# Altium schematic symbol library Si501_2_3.Schlib: 1 symbol
Pins are listed as number, name and electrical type; pins without a type are passive.

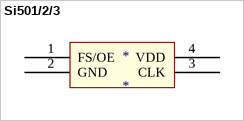
[diagram p0: symbol Si501/2/3]

## Si501/2/3
designator *
pins: 1 FS/OE, 2 GND, 3 CLK, 4 VDD